# Altium schematic symbol library USBParts.SchLib: 2 symbols
Pins are listed as number, name and electrical type; pins without a type are passive.

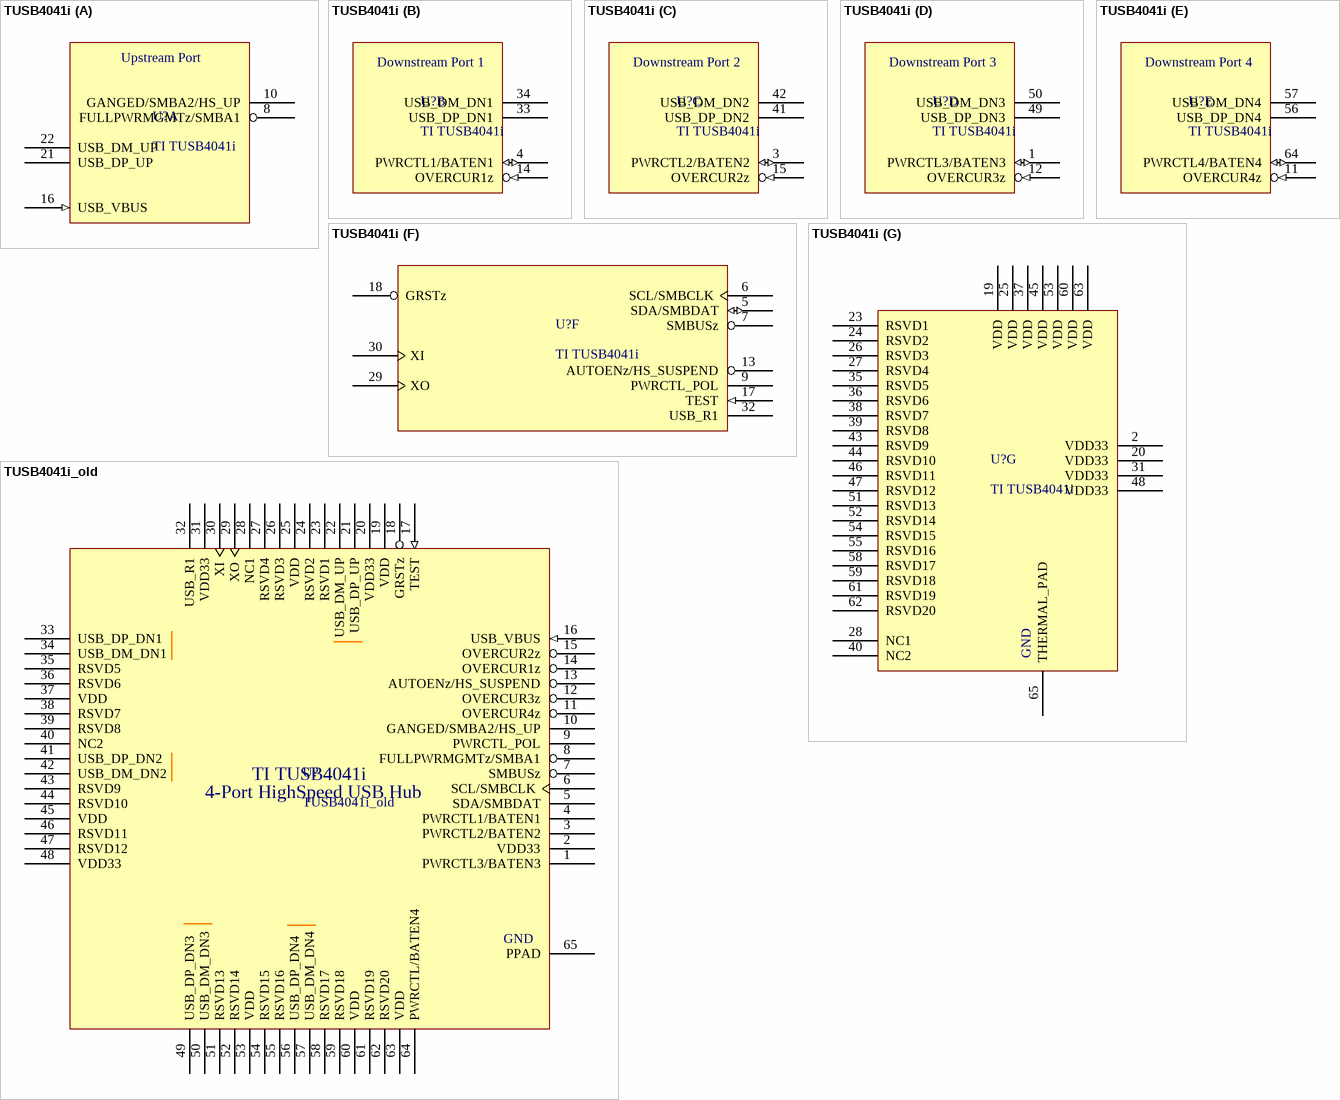
[diagram p0: symbols TUSB4041i to TUSB4041i_old]

## TUSB4041i
designator U?, comment TI TUSB4041i
TI TUSB4041i Four-Port High-Speed 480Mbps USB 2.0 Hub
footprint TI_TUSB4041i_HighDensity (TI TUSB4041i Four-Port High-Speed 480Mbps USB 2.0 Hub)
part A pins: 8 FULLPWRMGMTz/SMBA1, 10 GANGED/SMBA2/HS_UP, 16 USB_VBUS (in), 21 USB_DP_UP, 22 USB_DM_UP
part B pins: 4 PWRCTL1/BATEN1 (io), 14 OVERCUR1z (in), 33 USB_DP_DN1, 34 USB_DM_DN1
part C pins: 3 PWRCTL2/BATEN2 (io), 15 OVERCUR2z (in), 41 USB_DP_DN2, 42 USB_DM_DN2
part D pins: 1 PWRCTL3/BATEN3 (io), 12 OVERCUR3z (in), 49 USB_DP_DN3, 50 USB_DM_DN3
part E pins: 11 OVERCUR4z (in), 56 USB_DP_DN4, 57 USB_DM_DN4, 64 PWRCTL4/BATEN4 (io)
part F pins: 5 SDA/SMBDAT (io), 6 SCL/SMBCLK, 7 SMBUSz, 9 PWRCTL_POL, 13 AUTOENz/HS_SUSPEND, 17 TEST (in), 18 GRSTz, 29 XO, 30 XI, 32 USB_R1
part G pins: 2 VDD33, 19 VDD (power), 20 VDD33 (power), 23 RSVD1, 24 RSVD2, 25 VDD, 26 RSVD3, 27 RSVD4, 28 NC1, 31 VDD33 (power), 35 RSVD5, 36 RSVD6, 37 VDD (power), 38 RSVD7, 39 RSVD8, 40 NC2, 43 RSVD9, 44 RSVD10, 45 VDD (power), 46 RSVD11, 47 RSVD12 (power), 48 VDD33 (power), 51 RSVD13, 52 RSVD14, 53 VDD (power), 54 RSVD15, 55 RSVD16, 58 RSVD17, 59 RSVD18, 60 VDD (power), 61 RSVD19, 62 RSVD20, 63 VDD (power), 65 THERMAL_PAD (power) "GND / Thermal Pad"
part A text: Upstream Port
part B text: Downstream Port 1
part C text: Downstream Port 2
part D text: Downstream Port 3
part E text: Downstream Port 4
part G text: GND

## TUSB4041i_old
designator U?
TI TUSB4041i Four-Port High-Speed 480Mbps USB 2.0 Hub; Supplier 1: Digi-Key; Supplier Part Number 1: 296-43143-1-ND
footprint TI_TUSB4041i_HighDensity (TI TUSB4041i Four-Port High-Speed 480Mbps USB 2.0 Hub)
pins: 1 PWRCTL3/BATEN3, 2 VDD33, 3 PWRCTL2/BATEN2, 4 PWRCTL1/BATEN1, 5 SDA/SMBDAT, 6 SCL/SMBCLK, 7 SMBUSz, 8 FULLPWRMGMTz/SMBA1, 9 PWRCTL_POL, 10 GANGED/SMBA2/HS_UP, 11 OVERCUR4z, 12 OVERCUR3z, 13 AUTOENz/HS_SUSPEND, 14 OVERCUR1z, 15 OVERCUR2z, 16 USB_VBUS (in), 17 TEST (in), 18 GRSTz, 19 VDD (power), 20 VDD33 (power), 21 USB_DP_UP, 22 USB_DM_UP, 23 RSVD1, 24 RSVD2, 25 VDD, 26 RSVD3, 27 RSVD4, 28 NC1, 29 XO, 30 XI, 31 VDD33 (power), 32 USB_R1, 33 USB_DP_DN1, 34 USB_DM_DN1, 35 RSVD5, 36 RSVD6, 37 VDD (power), 38 RSVD7, 39 RSVD8, 40 NC2, 41 USB_DP_DN2, 42 USB_DM_DN2, 43 RSVD9, 44 RSVD10, 45 VDD (power), 46 RSVD11, 47 RSVD12 (power), 48 VDD33 (power), 49 USB_DP_DN3, 50 USB_DM_DN3, 51 RSVD13, 52 RSVD14, 53 VDD (power), 54 RSVD15, 55 RSVD16, 56 USB_DP_DN4, 57 USB_DM_DN4, 58 RSVD17, 59 RSVD18, 60 VDD (power), 61 RSVD19, 62 RSVD20, 63 VDD (power), 64 PWRCTL/BATEN4, 65 PPAD (power) "GND / Thermal Pad"
text: TI TUSB4041i; 4-Port HighSpeed USB Hub; GND